# Altium integrated library U.FL-R-SMT_10_.IntLib: 1 symbol
Pins are listed as number, name and electrical type; pins without a type are passive.

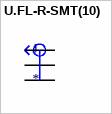
[diagram p0: symbol U.FL-R-SMT(10)]

## U.FL-R-SMT(10)
designator J
U.FL _UMCC_ Connector Receptacle, Male Pin 50Ohm Surface Mount Solder; MP: U.FL-R-SMT_10_; MF: Hirose; Availability: Unavailable; SnapEDA_Link: https://www.snapeda.com/parts/U.FL-R-SMT%2810%29/Hirose%20Electric%20Co%20Ltd/view-part/46852/?ref=snap; Value: *; Price: None; Package: FakePackage u
footprint HRS_U.FL-R-SMT(10)
pins: 1 SIG, 2 GND, 3 GND